# Altium schematic symbol library 823-22-006-10-004101 Pogo.SchLib: 1 symbol
Pins are listed as number, name and electrical type; pins without a type are passive.

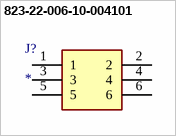
[diagram p0: symbol 823-22-006-10-004101]

## 823-22-006-10-004101
designator J?
Connector; Manufacturer_Name: Mill-Max; Manufacturer_Part_Number: 823-22-006-10-004101; Description: Headers & Wire Housings STD SPRING-LOADED CONNECTOR; Datasheet Link: https://www.arrow.com/en/products/8232200610004101/mill-max; Height: 5.994mm; Mouser Part Number: 575-8232200610004101; Mouser Price/Stock: https://www.mouser.co.uk/ProductDetail/Mill-Max/823-22-006-10-004101?qs=iJx90KzHWBqGX45BMLpjyA%3D%3D; Arrow Part Number: 823-22-006-10-004101; Arrow Price/Stock: https://www.arrow.com/en/products/8232200610004101/mill-max
footprint HDRV6W43P254_2X3_762X508X599P
pins: 1, 2, 3, 4, 5, 6